# EAGLE library part BMP180 (library NerduinoShieldLib)
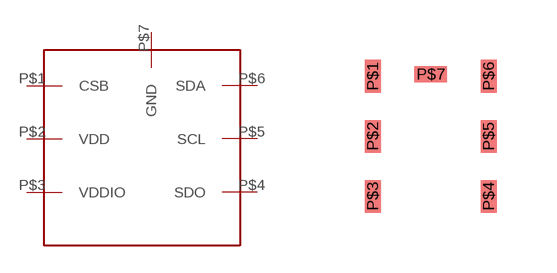
[diagram p5: symbol with the pads of BMP180; footprint BMP180]

Designator prefix -

## BMP180  [BMP180]
P$1  CSB
P$2  VDD
P$3  VDDIO
P$4  SDO
P$5  SCL
P$6  SDA
P$7  GND

## Footprint BMP180 (pad centres in mm)
smd 0.406 x 0.813: P$1 -1.15,0.2; P$2 -1.15,-1.3; P$3 -1.15,-2.8; P$4 1.75,-2.8; P$5 1.75,-1.3; P$6 1.75,0.2
smd 0.813 x 0.406: P$7 0.3,0.25